# Altium footprint library TI-HTSSOP-24.PcbLib: 1 footprints
Each footprint in its own frame and in the unit in brackets; x right, y up, seen from the top. Pads: shape width x height; smd on the part's side, far side on the other; paste and mask are expansions set on the pad; w line width, h text height; cw(c..) or ccw(c..) is an arc to the next point about the centre after c.
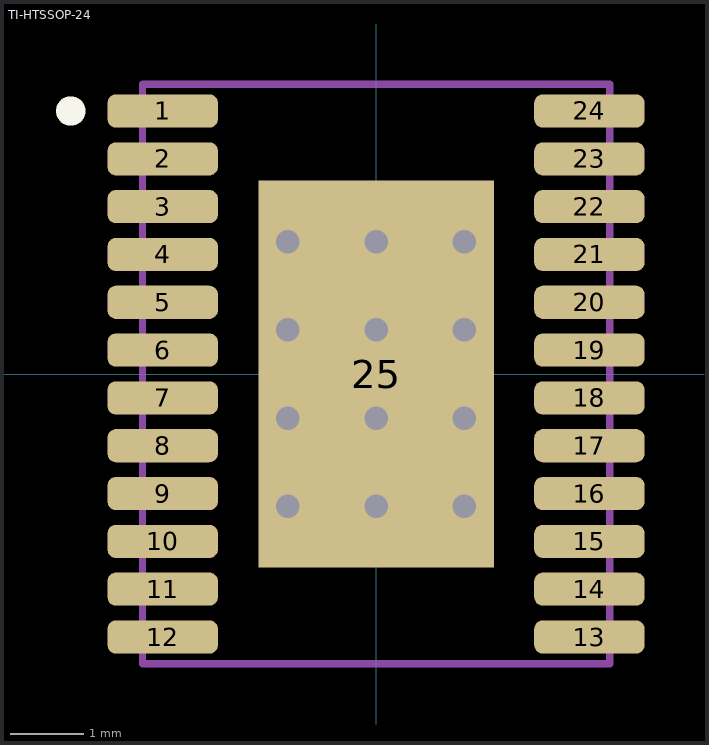
[diagram p0: the footprint, top view; thin cyan lines are the x and y axes]

## TI-HTSSOP-24 [mm]
pads (25):
  rrect50% 1.5x0.45 smd: 1(-2.9,3.575) 2(-2.9,2.925) 3(-2.9,2.275) 4(-2.9,1.625) 5(-2.9,0.975) 6(-2.9,0.325) 7(-2.9,-0.325) 8(-2.9,-0.975) 9(-2.9,-1.625) 10(-2.9,-2.275) 11(-2.9,-2.925) 12(-2.9,-3.575) 13(2.9,-3.575) 14(2.9,-2.925) 15(2.9,-2.275) 16(2.9,-1.625) 17(2.9,-0.975) 18(2.9,-0.325) 19(2.9,0.325) 20(2.9,0.975) 21(2.9,1.625) 22(2.9,2.275) 23(2.9,2.925) 24(2.9,3.575)
  rect 3.2x5.26 smd paste+0.075 mask+0.07: 25(0,0)
via -1.2,-1.8 diameter 0.7 hole 0.32
via -1.2,-0.6 diameter 0.7 hole 0.32
via -1.2,0.6 diameter 0.7 hole 0.32
via -1.2,1.8 diameter 0.7 hole 0.32
via 0,-1.8 diameter 0.7 hole 0.32
via 0,-0.6 diameter 0.7 hole 0.32
via 0,0.6 diameter 0.7 hole 0.32
via 0,1.8 diameter 0.7 hole 0.32
via 1.2,-1.8 diameter 0.7 hole 0.32
via 1.2,-0.6 diameter 0.7 hole 0.32
via 1.2,0.6 diameter 0.7 hole 0.32
via 1.2,1.8 diameter 0.7 hole 0.32
Top Overlay:
  circle w0.2: c-4.15,3.575 r0.1
Mechanical 13:
  lines w0.1: -3.175,-3.937 3.175,-3.937 3.175,3.937 -3.175,3.937 -3.175,-3.937
Mechanical 15:
  lines w0.1: -0.127,0 0,0 ; 0,-0.127 0,0 ; 0,0.127 0,0 ; 0.127,0 0,0
3D body "LM5122ZPWPR.STEP": height 1.21, standoff 0.01, extent -3.2,-3.9 3.2,3.9